# EAGLE library part LH79520 (library sharp-arm)
Sharp LH79520 ARM7 system-on-chip MCU
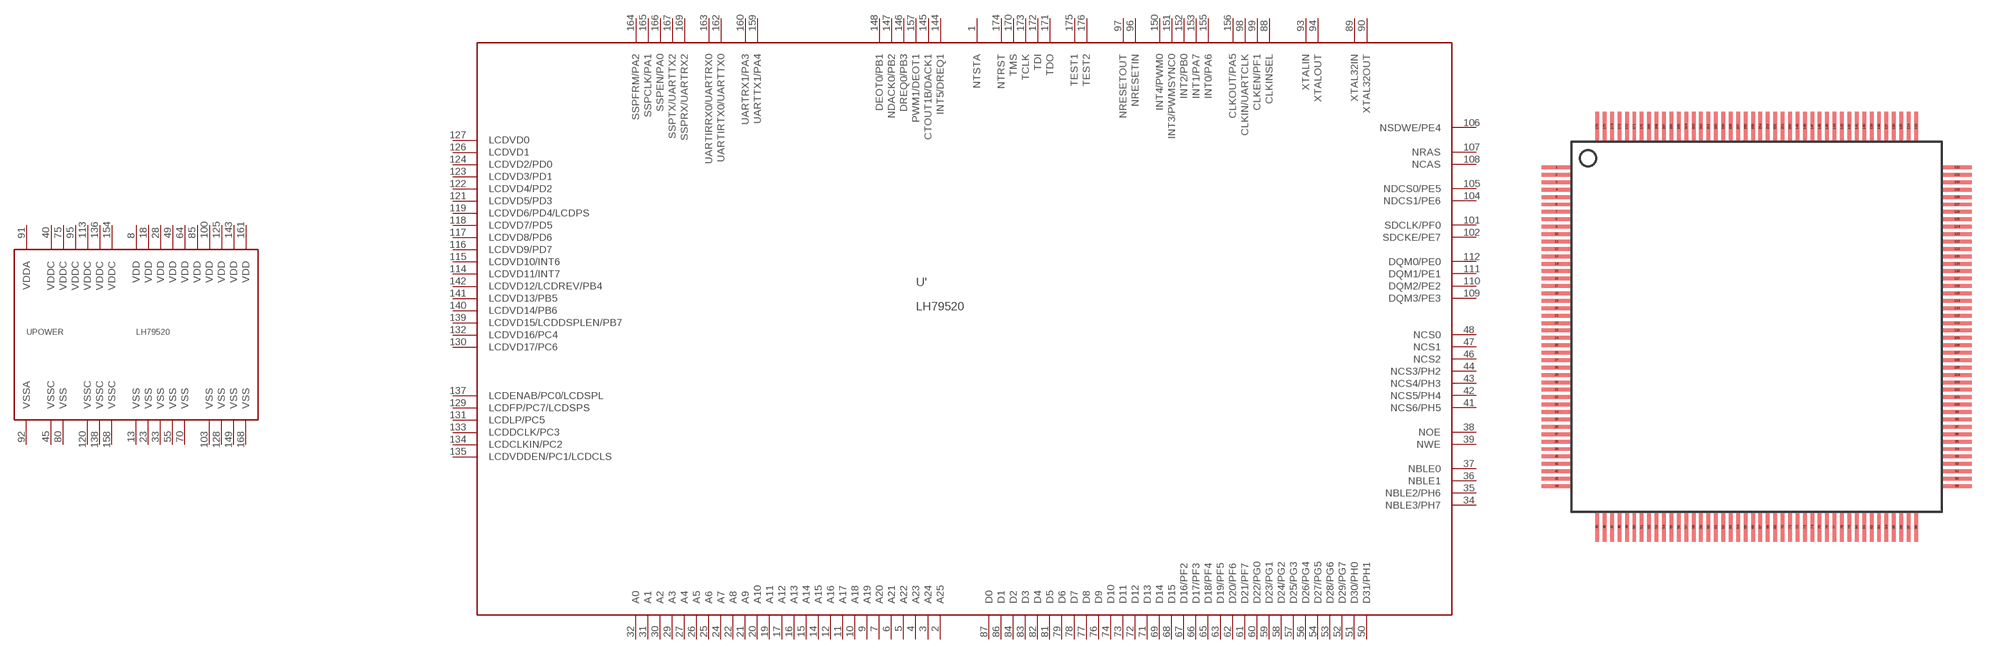
[diagram p0: symbol with the pads of 176LQFP; footprint 176LQFP]

Designator prefix -; gates POWER=LH79520_P '=LH79520

## LH79520LQFP  [176LQFP]
1  ':NTSTA  in
2  ':A25  out
3  ':A24  out
4  ':A23  out
5  ':A22  out
6  ':A21  out
7  ':A20  out
8  POWER:VDD  pwr
9  ':A19  out
10  ':A18  out
11  ':A17  out
12  ':A16  out
13  POWER:VSS  pwr
14  ':A15  out
15  ':A14  out
16  ':A13  out
17  ':A12  out
18  POWER:VDD  pwr
19  ':A11  out
20  ':A10  out
21  ':A9  out
22  ':A8  out
23  POWER:VSS  pwr
24  ':A7  out
25  ':A6  out
26  ':A5  out
27  ':A4  out
28  POWER:VDD  pwr
29  ':A3  out
30  ':A2  out
31  ':A1  out
32  ':A0  out
33  POWER:VSS  pwr
34  ':NBLE3/PH7
35  ':NBLE2/PH6
36  ':NBLE1  out
37  ':NBLE0  out
38  ':NOE  out
39  ':NWE  out
40  POWER:VDDC  pwr
41  ':NCS6/PH5
42  ':NCS5/PH4
43  ':NCS4/PH3
44  ':NCS3/PH2
45  POWER:VSSC  pwr
46  ':NCS2  out
47  ':NCS1  out
48  ':NCS0  out
49  POWER:VDD  pwr
50  ':D31/PH1
51  ':D30/PH0
52  ':D29/PG7
53  ':D28/PG6
54  ':D27/PG5
55  POWER:VSS  pwr
56  ':D26/PG4
57  ':D25/PG3
58  ':D24/PG2
59  ':D23/PG1
60  ':D22/PG0
61  ':D21/PF7
62  ':D20/PF6
63  ':D19/PF5
64  POWER:VDD  pwr
65  ':D18/PF4
66  ':D17/PF3
67  ':D16/PF2
68  ':D15
69  ':D14
70  POWER:VSS  pwr
71  ':D13
72  ':D12
73  ':D11
74  ':D10
75  POWER:VDDC  pwr
76  ':D9
77  ':D8
78  ':D7
79  ':D6
80  POWER:VSS  pwr
81  ':D5
82  ':D4
83  ':D3
84  ':D2
85  POWER:VDD  pwr
86  ':D1
87  ':D0
88  ':CLKINSEL  in
89  ':XTAL32IN  in
90  ':XTAL32OUT  out
91  POWER:VDDA  pwr
92  POWER:VSSA  pwr
93  ':XTALIN  in
94  ':XTALOUT  out
95  POWER:VDDC  pwr
96  ':NRESETIN  in
97  ':NRESETOUT  out
98  ':CLKIN/UARTCLK  in
99  ':CLKEN/PF1
100  POWER:VDD  pwr
101  ':SDCLK/PF0
102  ':SDCKE/PE7
103  POWER:VSS  pwr
104  ':NDCS1/PE6
105  ':NDCS0/PE5
106  ':NSDWE/PE4
107  ':NRAS  out
108  ':NCAS  out
109  ':DQM3/PE3
110  ':DQM2/PE2
111  ':DQM1/PE1
112  ':DQM0/PE0
113  POWER:VDDC  pwr
114  ':LCDVD11/INT7
115  ':LCDVD10/INT6
116  ':LCDVD9/PD7
117  ':LCDVD8/PD6
118  ':LCDVD7/PD5
119  ':LCDVD6/PD4/LCDPS
120  POWER:VSSC  pwr
121  ':LCDVD5/PD3
122  ':LCDVD4/PD2
123  ':LCDVD3/PD1
124  ':LCDVD2/PD0
125  POWER:VDD  pwr
126  ':LCDVD1  out
127  ':LCDVD0  out
128  POWER:VSS  pwr
129  ':LCDFP/PC7/LCDSPS
130  ':LCDVD17/PC6
131  ':LCDLP/PC5
132  ':LCDVD16/PC4
133  ':LCDDCLK/PC3
134  ':LCDCLKIN/PC2
135  ':LCDVDDEN/PC1/LCDCLS
136  POWER:VDDC  pwr
137  ':LCDENAB/PC0/LCDSPL
138  POWER:VSSC  pwr
139  ':LCDVD15/LCDDSPLEN/PB7
140  ':LCDVD14/PB6
141  ':LCDVD13/PB5
142  ':LCDVD12/LCDREV/PB4
143  POWER:VDD  pwr
144  ':INT5/DREQ1  in
145  ':CTOUT1B/DACK1  out
146  ':DREQ0/PB3
147  ':NDACK0/PB2
148  ':DEOT0/PB1
149  POWER:VSS  pwr
150  ':INT4/PWM0
151  ':INT3/PWMSYNC0  in
152  ':INT2/PB0
153  ':INT1/PA7
154  POWER:VDDC  pwr
155  ':INT0/PA6
156  ':CLKOUT/PA5
157  ':PWM1/DEOT1  out
158  POWER:VSSC  pwr
159  ':UARTTX1/PA4
160  ':UARTRX1/PA3
161  POWER:VDD  pwr
162  ':UARTIRTX0/UARTTX0  out
163  ':UARTIRRX0/UARTRX0  in
164  ':SSPFRM/PA2
165  ':SSPCLK/PA1
166  ':SSPEN/PA0
167  ':SSPTX/UARTTX2  out
168  POWER:VSS  pwr
169  ':SSPRX/UARTRX2  in
170  ':TMS  in
171  ':TDO  out
172  ':TDI  in
173  ':TCLK  in
174  ':NTRST  in
175  ':TEST1  in
176  ':TEST2  in

## Footprint 176LQFP (pad centres in mm)
176LQFP 20x20mm body JEDEC package, 0.4mm pin pitch, 22x22mm overall size including foot
smd 1.6 x 0.2: 1 -10.9,8.5; 2 -10.9,8.1; 3 -10.9,7.7; 4 -10.9,7.3; 5 -10.9,6.9; 6 -10.9,6.5; 7 -10.9,6.1; 8 -10.9,5.7; 9 -10.9,5.3; 10 -10.9,4.9; 11 -10.9,4.5; 12 -10.9,4.1; 13 -10.9,3.7; 14 -10.9,3.3; 15 -10.9,2.9; 16 -10.9,2.5; 17 -10.9,2.1; 18 -10.9,1.7; 19 -10.9,1.3; 20 -10.9,0.9; 21 -10.9,0.5; 22 -10.9,0.1; 23 -10.9,-0.3; 24 -10.9,-0.7; 25 -10.9,-1.1; 26 -10.9,-1.5; 27 -10.9,-1.9; 28 -10.9,-2.3; 29 -10.9,-2.7; 30 -10.9,-3.1; 31 -10.9,-3.5; 32 -10.9,-3.9; 33 -10.9,-4.3; 34 -10.9,-4.7; 35 -10.9,-5.1; 36 -10.9,-5.5; 37 -10.9,-5.9; 38 -10.9,-6.3; 39 -10.9,-6.7; 40 -10.9,-7.1; 41 -10.9,-7.5; 42 -10.9,-7.9; 43 -10.9,-8.3; 44 -10.9,-8.7; 89 10.7,-8.7; 90 10.7,-8.3; 91 10.7,-7.9; 92 10.7,-7.5; 93 10.7,-7.1; 94 10.7,-6.7; 95 10.7,-6.3; 96 10.7,-5.9; 97 10.7,-5.5; 98 10.7,-5.1; 99 10.7,-4.7; 100 10.7,-4.3; 101 10.7,-3.9; 102 10.7,-3.5; 103 10.7,-3.1; 104 10.7,-2.7; 105 10.7,-2.3; 106 10.7,-1.9; 107 10.7,-1.5; 108 10.7,-1.1; 109 10.7,-0.7; 110 10.7,-0.3; 111 10.7,0.1; 112 10.7,0.5; 113 10.7,0.9; 114 10.7,1.3; 115 10.7,1.7; 116 10.7,2.1; 117 10.7,2.5; 118 10.7,2.9; 119 10.7,3.3; 120 10.7,3.7; 121 10.7,4.1; 122 10.7,4.5; 123 10.7,4.9; 124 10.7,5.3; 125 10.7,5.7; 126 10.7,6.1; 127 10.7,6.5; 128 10.7,6.9; 129 10.7,7.3; 130 10.7,7.7; 131 10.7,8.1; 132 10.7,8.5
smd 0.2 x 1.6: 45 -8.7,-10.9; 46 -8.3,-10.9; 47 -7.9,-10.9; 48 -7.5,-10.9; 49 -7.1,-10.9; 50 -6.7,-10.9; 51 -6.3,-10.9; 52 -5.9,-10.9; 53 -5.5,-10.9; 54 -5.1,-10.9; 55 -4.7,-10.9; 56 -4.3,-10.9; 57 -3.9,-10.9; 58 -3.5,-10.9; 59 -3.1,-10.9; 60 -2.7,-10.9; 61 -2.3,-10.9; 62 -1.9,-10.9; 63 -1.5,-10.9; 64 -1.1,-10.9; 65 -0.7,-10.9; 66 -0.3,-10.9; 67 0.1,-10.9; 68 0.5,-10.9; 69 0.9,-10.9; 70 1.3,-10.9; 71 1.7,-10.9; 72 2.1,-10.9; 73 2.5,-10.9; 74 2.9,-10.9; 75 3.3,-10.9; 76 3.7,-10.9; 77 4.1,-10.9; 78 4.5,-10.9; 79 4.9,-10.9; 80 5.3,-10.9; 81 5.7,-10.9; 82 6.1,-10.9; 83 6.5,-10.9; 84 6.9,-10.9; 85 7.3,-10.9; 86 7.7,-10.9; 87 8.1,-10.9; 88 8.5,-10.9; 133 8.5,10.7; 134 8.1,10.7; 135 7.7,10.7; 136 7.3,10.7; 137 6.9,10.7; 138 6.5,10.7; 139 6.1,10.7; 140 5.7,10.7; 141 5.3,10.7; 142 4.9,10.7; 143 4.5,10.7; 144 4.1,10.7; 145 3.7,10.7; 146 3.3,10.7; 147 2.9,10.7; 148 2.5,10.7; 149 2.1,10.7; 150 1.7,10.7; 151 1.3,10.7; 152 0.9,10.7; 153 0.5,10.7; 154 0.1,10.7; 155 -0.3,10.7; 156 -0.7,10.7; 157 -1.1,10.7; 158 -1.5,10.7; 159 -1.9,10.7; 160 -2.3,10.7; 161 -2.7,10.7; 162 -3.1,10.7; 163 -3.5,10.7; 164 -3.9,10.7; 165 -4.3,10.7; 166 -4.7,10.7; 167 -5.1,10.7; 168 -5.5,10.7; 169 -5.9,10.7; 170 -6.3,10.7; 171 -6.7,10.7; 172 -7.1,10.7; 173 -7.5,10.7; 174 -7.9,10.7; 175 -8.3,10.7; 176 -8.7,10.7